# Altium schematic symbol library surfacemountresarray.SchLib: 2 symbols
Pins are listed as number, name and electrical type; pins without a type are passive.

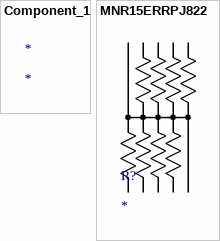
[diagram p0: symbols Component_1 to MNR15ERRPJ822]

## Component_1
designator *

## MNR15ERRPJ822
designator R?
Imported; Manufacturer_Part_Number: MNR15ERRPJ822; Vendor: ROHM; Value: Value
footprint MNR15
pins: 1, 2, 3, 4, 5, 6, 7, 8, 9, 10